# EAGLE library part PCF8574-MODULE (library PCF8574_Module)
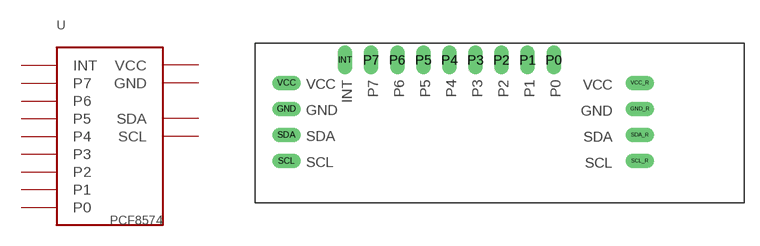
[diagram p0: symbol with the pads of PCF8574-MODULE; footprint PCF8574-MODULE]

Designator prefix -

## PCF8574-MODULE  [PCF8574-MODULE]
GND  GND
GND_R  GND
INT  INT
P0  P0
P1  P1
P2  P2
P3  P3
P4  P4
P5  P5
P6  P6
P7  P7
SCL  SCL
SCL_R  SCL
SDA  SDA
SDA_R  SDA
VCC  VCC
VCC_R  VCC

## Footprint PCF8574-MODULE (pad centres in mm)
drill 0.9 pad 1.3 long: GND 0,5.08; GND_R 34.42,5.08; INT 5.71,9.85; P0 26.03,9.85; P1 23.49,9.85; P2 20.95,9.85; P3 18.41,9.85; P4 15.87,9.85; P5 13.33,9.85; P6 10.79,9.85; P7 8.25,9.85; SCL 0,0; SCL_R 34.42,0; SDA 0,2.54; SDA_R 34.42,2.54; VCC 0,7.62; VCC_R 34.42,7.62